# Altium footprint library Transformators_rus.PCBLIB: 18 footprints (part 2 of 2)
Each footprint in its own frame and in the unit in brackets; x right, y up, seen from the top. Pads: shape width x height; smd on the part's side, far side on the other; paste and mask are expansions set on the pad; w line width, h text height; cw(c..) or ccw(c..) is an arc to the next point about the centre after c.
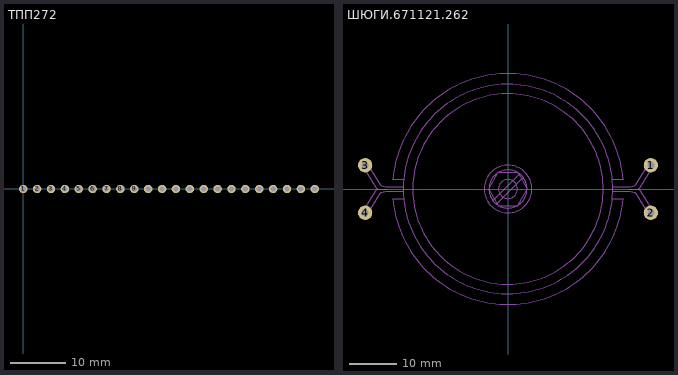
[diagram p1: the footprints below, top view; thin cyan lines are the x and y axes]

## ТПП272 [mil]
pads (22):
  round 60 hole 40: 1(0,0) 2(98.43,0)
  round 60 hole 38: 3(196.85,0) 4(295.28,0) 5(393.7,0) 6(492.13,0) 7(590.55,0) 8(688.98,0) 9(787.4,0) 10(885.83,0) 11(984.25,0) 12(1082.68,0) 13(1181.1,0) 14(1279.53,0) 15(1377.95,0) 16(1476.38,0) 17(1574.8,0) 18(1673.23,0) 19(1771.65,0) 20(1870.08,0) 21(1968.5,0) 22(2066.93,0)
Mechanical 1:
  text ".Designator" at 989.57,175 h59.06
  text ".Comment" at 914.76,92.32 h59.06

## ШЮГИ.671121.262 [mm]
height 34.8
pads (4):
  round 3 hole 1.5: 1(30,5) 2(30,-5) 3(-30,5) 4(-30,-5)
Mechanical 1:
  drawing of 628 lines, arcs and shapes, not listed
  text "1" at 18,1 h1.5
  text ".Comment" at -3,-8 h1.5
  text ".Designator" at -1.074,8.382 h1.5
  text "2" at 18,-2 h1.5
  text "3" at -18,1 h1.5
  text "4" at -18,-2 h1.5
Mechanical 2:
  circle w0.2: c0,0 r2
  circle w0.2: c0,0 r5
  lines w0.2: -3.999,-0.073 ccw(c0,0) -2.063,-3.427 ; -3.999,0.073 cw(c0,0) -2.063,3.427 ; -1.936,-3.5 ccw(c0,0) 1.937,-3.5 ; -1.936,3.5 cw(c0,0) 1.937,3.5 ; 2.063,-3.427 ccw(c0,0) 3.999,-0.073 ; 2.063,3.427 cw(c0,0) 3.999,0.073 ; -4.041,0 -2.021,3.5 2.021,3.5 4.041,0 2.021,-3.5 -2.021,-3.5 -4.041,0
3D body: height 34.8, standoff -8.2, extent -30.496,-24.028 30.496,24.029